# Altium footprint library LM2587 FOOTPRİNT.PcbLib: 2 footprints
Each footprint in its own frame and in the unit in brackets; x right, y up, seen from the top. Pads: shape width x height; smd on the part's side, far side on the other; paste and mask are expansions set on the pad; w line width, h text height; cw(c..) or ccw(c..) is an arc to the next point about the centre after c.
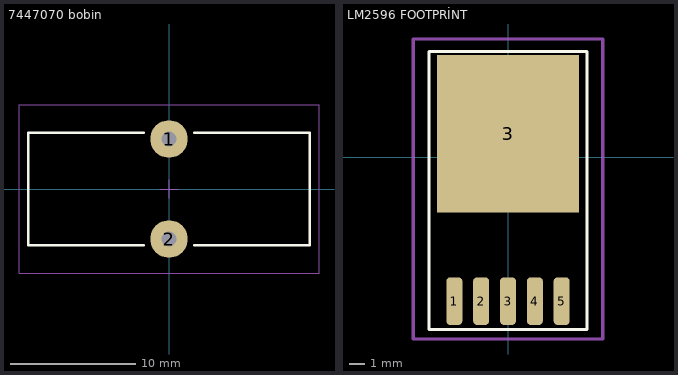
[diagram p0: the footprints below, top view; thin cyan lines are the x and y axes]

## 7447070 bobin [mm] "0.984\" Dia x 0.433\" W (25.00mm x 11.00mm)"
height 25
pads (2):
  round 3 hole 1.2: 1(0,4) 2(0,-4)
Top Overlay:
  lines w0.2: -2,-4.5 -11.25,-4.5 -11.25,4.5 -2,4.5 ; 2,-4.5 11.25,-4.5 11.25,4.5 2,4.5
Mechanical 15:
  lines w0.1: -0.75,0 0.75,0 ; 0,-0.75 0,0.75 ; -12,-6.75 -12,6.75 0,6.75 12,6.75 12,-6.75 -12,-6.75
3D body "7447070_Download_STP_7447070_rev1.stp": height 23.21, standoff -13.69, extent -11.209,-4.499 11.209,4.499

## LM2596 FOOTPRİNT [mm]
pads (6):
  rrect50% 1.016x3.015 smd: 1(-3.4,-9.1) 2(-1.7,-9.1) 3(0,-9.1) 4(1.7,-9.1) 5(3.4,-9.1)
  rect 9x10 smd: 3(0,1.5)
Top Overlay:
  lines w0.2: 4.95,6.7 2.95,6.7 0.7,6.7 -0.8,6.7 -3.05,6.7 -5,6.7 -5,-4 -5,-10.9 -2.5,-10.9 2.5,-10.9 5,-10.9 5,6.7
Mechanical 15:
  lines w0.2: -6,-11.5 -4.75,-11.5 -4.25,-11.5 -2.5,-11.5 2.5,-11.5 3.25,-11.5 4.5,-11.5 6,-11.5 6,7.5 2.5,7.5 -2.5,7.5 -6,7.5 -6,-11 -6,-11.5
3D body "TO263-5-1.stp": height 4.22, standoff 0, extent -4.911,-9.561 4.911,5.041